# EAGLE library part PIC18F26K20-X/ML (library PIC18F26k20)
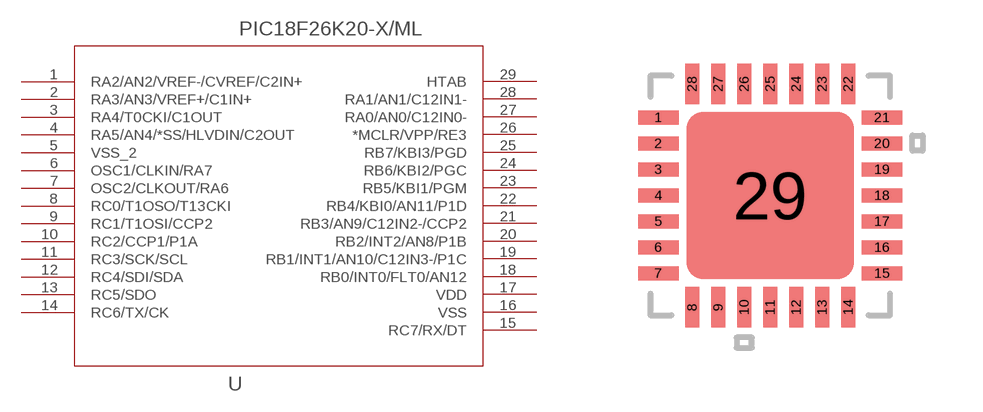
[diagram p0: symbol with the pads of QFN28_6X6MC; footprint QFN28_6X6MC]

Designator prefix -

## PIC18F26K20-X/ML  [QFN28_6X6MC]
1  RA2/AN2/VREF-/CVREF/C2IN+  pas
2  RA3/AN3/VREF+/C1IN+  pas
3  RA4/T0CKI/C1OUT  pas
4  RA5/AN4/*SS/HLVDIN/C2OUT  pas
5  VSS_2  pas
6  OSC1/CLKIN/RA7  pas
7  OSC2/CLKOUT/RA6  pas
8  RC0/T1OSO/T13CKI  pas
9  RC1/T1OSI/CCP2  pas
10  RC2/CCP1/P1A  pas
11  RC3/SCK/SCL  pas
12  RC4/SDI/SDA  pas
13  RC5/SDO  pas
14  RC6/TX/CK  pas
15  RC7/RX/DT  pas
16  VSS  pas
17  VDD  pas
18  RB0/INT0/FLT0/AN12  pas
19  RB1/INT1/AN10/C12IN3-/P1C  pas
20  RB2/INT2/AN8/P1B  pas
21  RB3/AN9/C12IN2-/CCP2  pas
22  RB4/KBI0/AN11/P1D  pas
23  RB5/KBI1/PGM  pas
24  RB6/KBI2/PGC  pas
25  RB7/KBI3/PGD  pas
26  *MCLR/VPP/RE3  pas
27  RA0/AN0/C12IN0-  pas
28  RA1/AN1/C12IN1-  pas
29  HTAB  pas

## Footprint QFN28_6X6MC (pad centres in mm)
smd 1.016 x 0.356: 1 -2.797,1.95; 2 -2.797,1.3; 3 -2.797,0.65; 4 -2.797,0; 5 -2.797,-0.65; 6 -2.797,-1.3; 7 -2.797,-1.95; 15 2.797,-1.95; 16 2.797,-1.3; 17 2.797,-0.65; 18 2.797,0; 19 2.797,0.65; 20 2.797,1.3; 21 2.797,1.95
smd 0.356 x 1.016: 8 -1.95,-2.797; 9 -1.3,-2.797; 10 -0.65,-2.797; 11 0,-2.797; 12 0.65,-2.797; 13 1.3,-2.797; 14 1.95,-2.797; 22 1.95,2.797; 23 1.3,2.797; 24 0.65,2.797; 25 0,2.797; 26 -0.65,2.797; 27 -1.3,2.797; 28 -1.95,2.797
smd 4.191 x 4.191: 29 0,0